# Altium footprint library Passives.PcbLib: 53 footprints (part 2 of 4)
Each footprint in its own frame and in the unit in brackets; x right, y up, seen from the top. Pads: shape width x height; smd on the part's side, far side on the other; paste and mask are expansions set on the pad; w line width, h text height; cw(c..) or ccw(c..) is an arc to the next point about the centre after c.
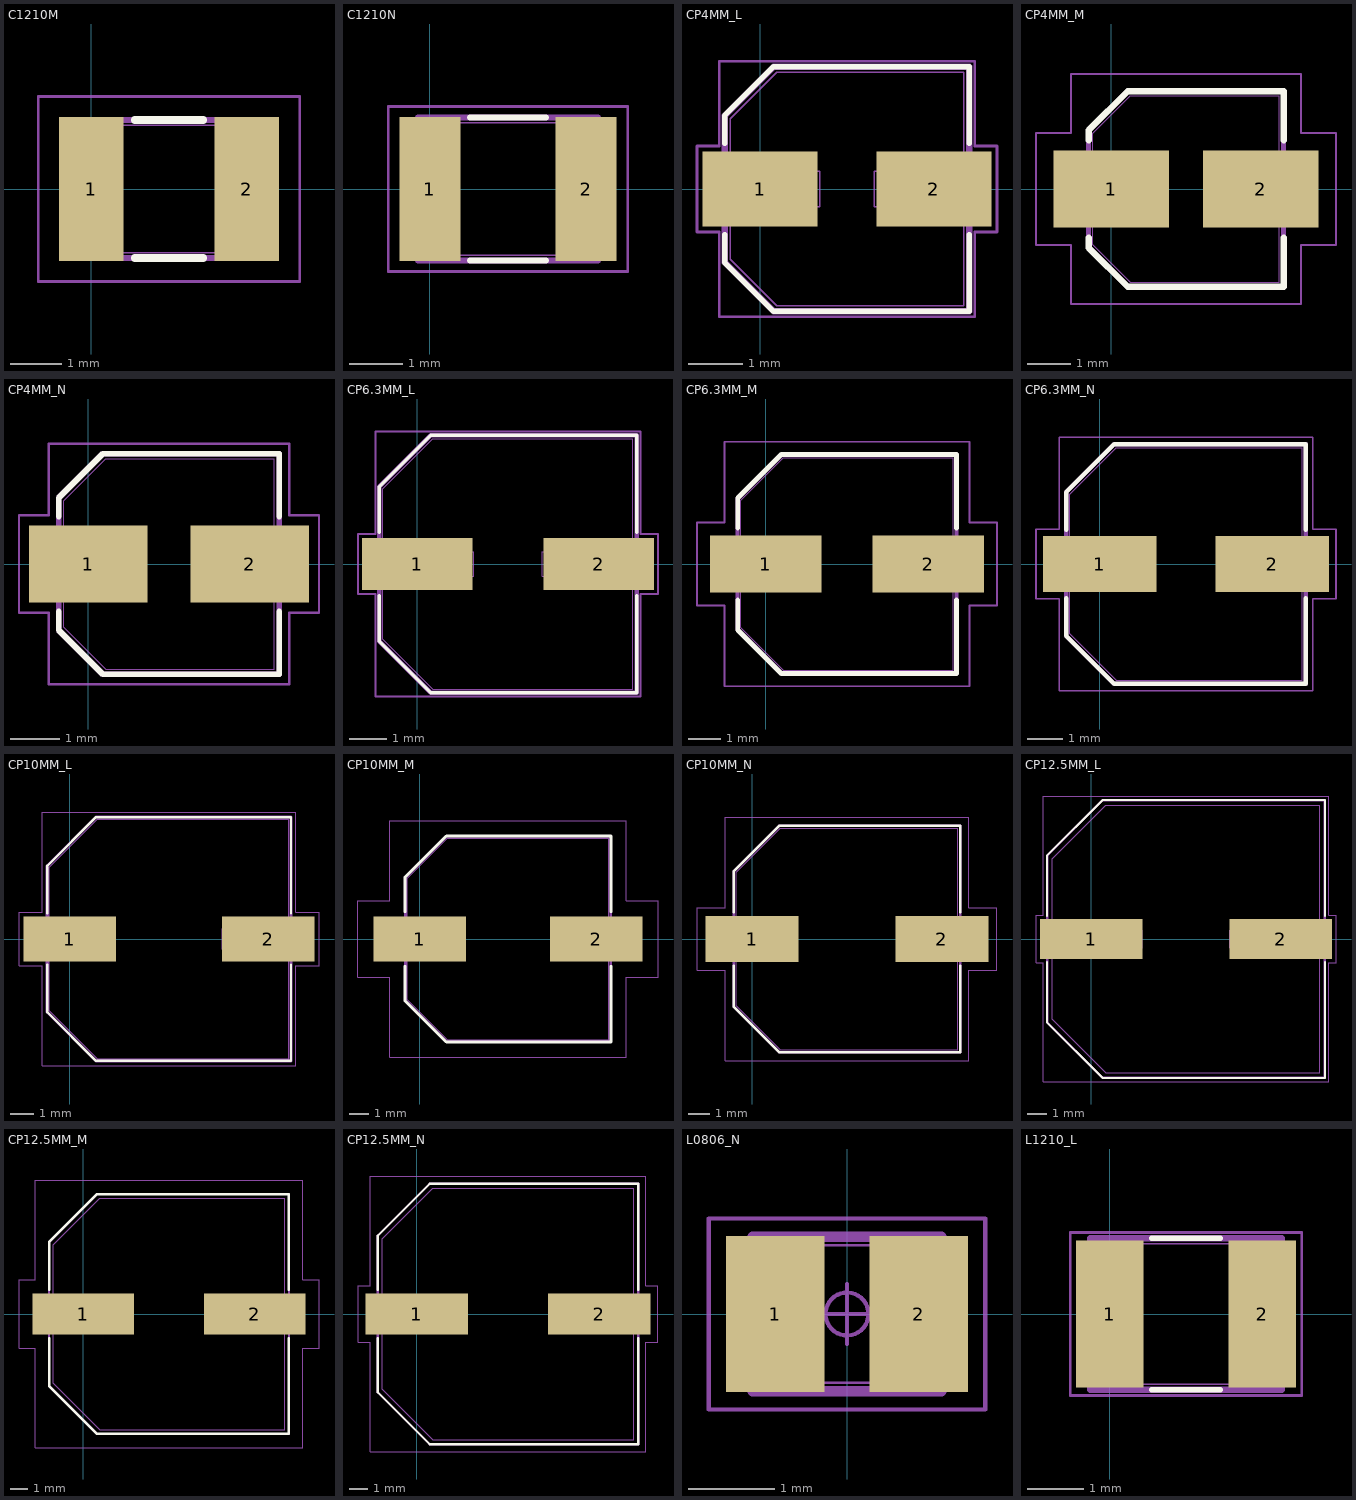
[diagram p1: the footprints below, top view; thin cyan lines are the x and y axes]

## C1210M [mm]
height 2.1
pads (2):
  rect 1.26x2.82 smd: 1(0,0) 2(3.05,0)
Top Overlay:
  lines w0.15: 0.855,-1.35 2.195,-1.35 ; 0.855,1.35 2.195,1.35
Assembly Top:
  lines w0.12: -0.175,-1.35 -0.175,1.35 3.225,1.35 3.225,-1.35 -0.175,-1.35
3D Top:
  lines w0.025: -0.075,-1.25 -0.075,1.25 ; -0.075,-1.25 3.125,-1.25 ; -0.075,-1.25 0.425,-1.25 0.425,1.25 -0.075,1.25 ; -0.075,-1.25 -0.075,1.25 ; -0.075,1.25 3.125,1.25 ; 3.125,-1.25 3.125,1.25 ; 3.125,-1.25 3.125,1.25 ; 3.125,-1.25 2.625,-1.25 2.625,1.25 3.125,1.25
Courtyard Top:
  circle w0.05: c0,0 r0.25
  lines w0.05: -0.35,0 0.35,0 ; 0,-0.35 0,0.35 ; -1.035,-1.81 -1.035,1.81 4.085,1.81 4.085,-1.81 -1.035,-1.81
3D body: height 2.1, standoff 0, extent -0.074,-1.25 3.126,1.25

## C1210N [mm]
height 2.1
pads (2):
  rect 1.16x2.72 smd: 1(0,0) 2(2.95,0)
Top Overlay:
  lines w0.12: 0.76,-1.35 2.19,-1.35 ; 0.76,1.35 2.19,1.35
Assembly Top:
  lines w0.12: -0.225,-1.35 3.175,-1.35 3.175,1.35 -0.225,1.35 -0.225,-1.35
3D Top:
  lines w0.025: -0.125,-1.25 -0.125,1.25 ; -0.125,-1.25 0.375,-1.25 0.375,1.25 -0.125,1.25 ; -0.125,-1.25 3.075,-1.25 ; -0.125,-1.25 -0.125,1.25 ; -0.125,1.25 3.075,1.25 ; 3.075,-1.25 2.575,-1.25 2.575,1.25 3.075,1.25 ; 3.075,-1.25 3.075,1.25 ; 3.075,-1.25 3.075,1.25
Courtyard Top:
  circle w0.05: c0,0 r0.25
  lines w0.05: -0.35,0 0.35,0 ; 0,-0.35 0,0.35 ; -0.785,-1.56 3.735,-1.56 3.735,1.56 -0.785,1.56 -0.785,-1.56
3D body: height 2.1, standoff 0, extent -0.125,-1.25 3.075,1.25

## CP4MM_L [mm]
height 5.5
pads (2):
  rect 2.12x1.38 smd: 1(0,0) 2(3.2,0)
Top Overlay:
  lines w0.1: -0.65,-0.84 -0.65,-1.35 0.25,-2.25 3.85,-2.25 3.85,-0.84 ; -0.65,0.84 -0.65,1.35 0.25,2.25 3.85,2.25 3.85,0.84
Assembly Top:
  lines w0.12: -0.65,-1.35 0.25,-2.25 3.85,-2.25 3.85,2.25 0.25,2.25 -0.65,1.35 -0.65,-1.35
3D Top:
  lines w0.025: -0.7,-0.325 1.1,-0.325 1.1,0.325 -0.7,0.325 -0.7,-0.325 ; -0.55,-1.29 0.31,-2.15 3.75,-2.15 3.75,2.15 0.31,2.15 -0.55,1.29 -0.55,-1.29 ; 2.1,-0.325 2.1,0.325 3.9,0.325 3.9,-0.325 2.1,-0.325
Courtyard Top:
  circle w0.05: c0,0 r0.25
  lines w0.05: -0.35,0 0.35,0 ; 0,-0.35 0,0.35 ; -1.16,-0.79 -1.16,0.79 -0.75,0.79 -0.75,2.35 3.95,2.35 3.95,0.79 4.36,0.79 4.36,-0.79 3.95,-0.79 3.95,-2.35 -0.75,-2.35 -0.75,-0.79 -1.16,-0.79
3D body: height 5.5, standoff 0, extent -0.7,-2.175 3.9,2.125

## CP4MM_M [mm]
height 5.5
pads (2):
  rect 2.67x1.78 smd: 1(0,0) 2(3.45,0)
Top Overlay:
  lines w0.15: -0.52,-1.12 -0.52,-1.36 0.38,-2.255 3.98,-2.255 3.98,-1.12 ; -0.52,1.12 -0.52,1.36 0.38,2.255 3.98,2.255 3.98,1.12
Assembly Top:
  lines w0.12: -0.525,-1.35 -0.525,1.35 0.375,2.25 3.975,2.25 3.975,-2.25 0.375,-2.25 -0.525,-1.35
3D Top:
  lines w0.025: -0.575,-0.325 -0.575,0.325 1.225,0.325 1.225,-0.325 -0.575,-0.325 ; -0.425,-1.29 -0.425,1.29 0.435,2.15 3.875,2.15 3.875,-2.15 0.435,-2.15 -0.425,-1.29 ; 2.225,-0.325 4.025,-0.325 4.025,0.325 2.225,0.325 2.225,-0.325
Courtyard Top:
  circle w0.05: c0,0 r0.25
  lines w0.05: -0.35,0 0.35,0 ; 0,-0.35 0,0.35 ; -1.735,-1.29 -0.93,-1.29 -0.93,-2.65 4.38,-2.65 4.38,-1.29 5.185,-1.29 5.185,1.29 4.38,1.29 4.38,2.65 -0.93,2.65 -0.93,1.29 -1.735,1.29 -1.735,-1.29
3D body: height 5.5, standoff 0, extent -0.573,-2.15 4.027,2.15

## CP4MM_N [mm]
height 5.5
pads (2):
  rect 2.42x1.58 smd: 1(0,0) 2(3.3,0)
Top Overlay:
  lines w0.12: -0.6,-0.97 -0.6,-1.35 0.3,-2.25 3.9,-2.25 3.9,-0.97 ; -0.6,0.97 -0.6,1.35 0.3,2.25 3.9,2.25 3.9,0.97
Assembly Top:
  lines w0.12: -0.6,-1.35 0.3,-2.25 3.9,-2.25 3.9,2.25 0.3,2.25 -0.6,1.35 -0.6,-1.35
3D Top:
  lines w0.025: -0.65,-0.325 1.15,-0.325 1.15,0.325 -0.65,0.325 -0.65,-0.325 ; -0.5,-1.29 0.36,-2.15 3.8,-2.15 3.8,2.15 0.36,2.15 -0.5,1.29 -0.5,-1.29 ; 2.15,-0.325 2.15,0.325 3.95,0.325 3.95,-0.325 2.15,-0.325
Courtyard Top:
  circle w0.05: c0,0 r0.25
  lines w0.05: -0.35,0 0.35,0 ; 0,-0.35 0,0.35 ; -1.41,-0.99 -1.41,0.99 -0.8,0.99 -0.8,2.45 4.1,2.45 4.1,0.99 4.71,0.99 4.71,-0.99 4.1,-0.99 4.1,-2.45 -0.8,-2.45 -0.8,-0.99 -1.41,-0.99
3D body: height 5.5, standoff 0, extent -0.649,-2.15 3.951,2.15

## CP6.3MM_L [mm]
height 5.5
pads (2):
  rect 2.92x1.38 smd: 1(0,0) 2(4.8,0)
Top Overlay:
  lines w0.1: -1,-0.84 -1,-2.04 0.36,-3.4 5.8,-3.4 5.8,-0.84 ; -1,0.84 -1,2.04 0.36,3.4 5.8,3.4 5.8,0.84
Assembly Top:
  lines w0.12: -1,-2.04 0.36,-3.4 5.8,-3.4 5.8,3.4 0.36,3.4 -1,2.04 -1,-2.04
3D Top:
  lines w0.025: -1.1,-0.325 1.5,-0.325 1.5,0.325 -1.1,0.325 -1.1,-0.325 ; -0.9,-1.98 0.42,-3.3 5.7,-3.3 5.7,3.3 0.42,3.3 -0.9,1.98 -0.9,-1.98 ; 3.3,-0.325 3.3,0.325 5.9,0.325 5.9,-0.325 3.3,-0.325
Courtyard Top:
  circle w0.05: c0,0 r0.25
  lines w0.05: -0.35,0 0.35,0 ; 0,-0.35 0,0.35 ; -1.56,-0.79 -1.56,0.79 -1.1,0.79 -1.1,3.5 5.9,3.5 5.9,0.79 6.36,0.79 6.36,-0.79 5.9,-0.79 5.9,-3.5 -1.1,-3.5 -1.1,-0.79 -1.56,-0.79
3D body: height 8, standoff 0, extent -1.087,-3.3 5.913,3.3

## CP6.3MM_M [mm]
height 5.5
pads (2):
  rect 3.47x1.78 smd: 1(0,0) 2(5.05,0)
Top Overlay:
  lines w0.15: -0.87,-1.12 -0.87,-2.05 0.49,-3.405 5.93,-3.405 5.93,-1.12 ; -0.87,1.12 -0.87,2.05 0.49,3.405 5.93,3.405 5.93,1.12
Assembly Top:
  lines w0.12: -0.875,-2.04 -0.875,2.04 0.485,3.4 5.925,3.4 5.925,-3.4 0.485,-3.4 -0.875,-2.04
3D Top:
  lines w0.025: -0.975,-0.325 -0.975,0.325 1.625,0.325 1.625,-0.325 -0.975,-0.325 ; -0.775,-1.98 -0.775,1.98 0.545,3.3 5.825,3.3 5.825,-3.3 0.545,-3.3 -0.775,-1.98 ; 3.425,-0.325 6.025,-0.325 6.025,0.325 3.425,0.325 3.425,-0.325
Courtyard Top:
  circle w0.05: c0,0 r0.25
  lines w0.05: -0.35,0 0.35,0 ; 0,-0.35 0,0.35 ; -2.135,-1.29 -1.28,-1.29 -1.28,-3.8 6.33,-3.8 6.33,-1.29 7.185,-1.29 7.185,1.29 6.33,1.29 6.33,3.8 -1.28,3.8 -1.28,1.29 -2.135,1.29 -2.135,-1.29
3D body: height 8, standoff 0, extent -0.985,-3.3 6.015,3.3

## CP6.3MM_N [mm]
height 5.5
pads (2):
  rect 3.22x1.58 smd: 1(0,0) 2(4.9,0)
Top Overlay:
  lines w0.12: -0.95,-0.97 -0.95,-2.04 0.41,-3.4 5.85,-3.4 5.85,-0.97 ; -0.95,0.97 -0.95,2.04 0.41,3.4 5.85,3.4 5.85,0.97
Assembly Top:
  lines w0.12: -0.95,-2.04 -0.95,2.04 0.41,3.4 5.85,3.4 5.85,-3.4 0.41,-3.4 -0.95,-2.04
3D Top:
  lines w0.025: -1.05,-0.325 -1.05,0.325 1.55,0.325 1.55,-0.325 -1.05,-0.325 ; -0.85,-1.98 -0.85,1.98 0.47,3.3 5.75,3.3 5.75,-3.3 0.47,-3.3 -0.85,-1.98 ; 3.35,-0.325 5.95,-0.325 5.95,0.325 3.35,0.325 3.35,-0.325
Courtyard Top:
  circle w0.05: c0,0 r0.25
  lines w0.05: -0.35,0 0.35,0 ; 0,-0.35 0,0.35 ; -1.81,-0.99 -1.15,-0.99 -1.15,-3.6 6.05,-3.6 6.05,-0.99 6.71,-0.99 6.71,0.99 6.05,0.99 6.05,3.6 -1.15,3.6 -1.15,0.99 -1.81,0.99 -1.81,-0.99
3D body: height 8, standoff 0, extent -1.036,-3.3 5.964,3.3

## CP10MM_L [mm]
height 10.5
pads (2):
  rect 3.97x1.92 smd: 1(0,0) 2(8.55,0)
Top Overlay:
  lines w0.1: -0.97,-1.11 -0.97,-3.15 1.13,-5.25 9.53,-5.25 9.53,-1.11 ; -0.97,1.11 -0.97,3.15 1.13,5.25 9.53,5.25 9.53,1.11
Assembly Top:
  lines w0.12: -0.975,-3.15 -0.975,3.15 1.125,5.25 9.525,5.25 9.525,-5.25 1.125,-5.25 -0.975,-3.15
3D Top:
  lines w0.025: -1.525,-0.45 -1.525,0.45 1.975,0.45 1.975,-0.45 -1.525,-0.45 ; -0.875,-3.09 -0.875,3.09 1.185,5.15 9.425,5.15 9.425,-5.15 1.185,-5.15 -0.875,-3.09 ; 6.575,-0.45 10.075,-0.45 10.075,0.45 6.575,0.45 6.575,-0.45
Courtyard Top:
  circle w0.05: c0,0 r0.25
  lines w0.05: -0.35,0 0.35,0 ; 0,-0.35 0,0.35 ; -2.185,-1.16 -1.18,-1.16 -1.18,-5.45 9.73,-5.45 9.73,-1.16 10.735,-1.16 10.735,1.16 9.73,1.16 9.73,5.45 -1.18,5.45 -1.18,1.16 -2.185,1.16 -2.185,-1.16
3D body: height 10.5, standoff 0, extent -1.55,-5.15 10.05,5.15

## CP10MM_M [mm]
height 10.5
pads (2):
  rect 4.72x2.32 smd: 1(0,0) 2(9,0)
Top Overlay:
  lines w0.15: -0.75,-1.39 -0.75,-3.16 1.35,-5.255 9.75,-5.255 9.75,-1.39 ; -0.75,1.39 -0.75,3.16 1.35,5.255 9.75,5.255 9.75,1.39
Assembly Top:
  lines w0.12: -0.75,-3.15 1.35,-5.25 9.75,-5.25 9.75,5.25 1.35,5.25 -0.75,3.15 -0.75,-3.15
3D Top:
  lines w0.025: -1.3,-0.45 2.2,-0.45 2.2,0.45 -1.3,0.45 -1.3,-0.45 ; -0.65,-3.09 1.41,-5.15 9.65,-5.15 9.65,5.15 1.41,5.15 -0.65,3.09 -0.65,-3.09 ; 6.8,-0.45 6.8,0.45 10.3,0.45 10.3,-0.45 6.8,-0.45
Courtyard Top:
  circle w0.05: c0,0 r0.25
  lines w0.05: -0.35,0 0.35,0 ; 0,-0.35 0,0.35 ; -3.16,-1.96 -3.16,1.96 -1.55,1.96 -1.55,6.05 10.55,6.05 10.55,1.96 12.16,1.96 12.16,-1.96 10.55,-1.96 10.55,-6.05 -1.55,-6.05 -1.55,-1.96 -3.16,-1.96
3D body: height 10.5, standoff 0, extent -1.296,-5.15 10.304,5.15

## CP10MM_N [mm]
height 10.5
pads (2):
  rect 4.32x2.12 smd: 1(0,0) 2(8.8,0)
Top Overlay:
  lines w0.12: -0.85,-1.24 -0.85,-3.15 1.25,-5.25 9.65,-5.25 9.65,-1.24 ; -0.85,1.24 -0.85,3.15 1.25,5.25 9.65,5.25 9.65,1.24
Assembly Top:
  lines w0.12: -0.85,-3.15 -0.85,3.15 1.25,5.25 9.65,5.25 9.65,-5.25 1.25,-5.25 -0.85,-3.15
3D Top:
  lines w0.025: -1.4,-0.45 -1.4,0.45 2.1,0.45 2.1,-0.45 -1.4,-0.45 ; -0.75,-3.09 -0.75,3.09 1.31,5.15 9.55,5.15 9.55,-5.15 1.31,-5.15 -0.75,-3.09 ; 6.7,-0.45 10.2,-0.45 10.2,0.45 6.7,0.45 6.7,-0.45
Courtyard Top:
  circle w0.05: c0,0 r0.25
  lines w0.05: -0.35,0 0.35,0 ; 0,-0.35 0,0.35 ; -2.56,-1.46 -1.25,-1.46 -1.25,-5.65 10.05,-5.65 10.05,-1.46 11.36,-1.46 11.36,1.46 10.05,1.46 10.05,5.65 -1.25,5.65 -1.25,1.46 -2.56,1.46 -2.56,-1.46
3D body: height 10.5, standoff 0, extent -1.398,-5.15 10.202,5.15

## CP12.5MM_L [mm]
height 14
pads (2):
  rect 5.17x2.01 smd: 1(0,0) 2(9.55,0)
Top Overlay:
  lines w0.1: -2.22,-1.16 -2.22,-4.21 0.58,-7.005 11.78,-7.005 11.78,-1.16 ; -2.22,1.16 -2.22,4.21 0.58,7.005 11.78,7.005 11.78,1.16
Assembly Top:
  lines w0.12: -2.225,-4.2 -2.225,4.2 0.575,7 11.775,7 11.775,-7 0.575,-7 -2.225,-4.2
3D Top:
  lines w0.025: -2.125,-0.45 -2.125,0.45 2.575,0.45 2.575,-0.45 -2.125,-0.45 ; -1.975,-4.05 -1.975,4.05 0.725,6.75 11.525,6.75 11.525,-6.75 0.725,-6.75 -1.975,-4.05 ; 6.975,-0.45 11.675,-0.45 11.675,0.45 6.975,0.45 6.975,-0.45
Courtyard Top:
  circle w0.05: c0,0 r0.25
  lines w0.05: -0.35,0 0.35,0 ; 0,-0.35 0,0.35 ; -2.785,-1.205 -2.43,-1.205 -2.43,-7.2 11.98,-7.2 11.98,-1.205 12.335,-1.205 12.335,1.205 11.98,1.205 11.98,7.2 -2.43,7.2 -2.43,1.205 -2.785,1.205 -2.785,-1.205
3D body: height 14, standoff 0, extent -2.125,-6.75 11.675,6.75

## CP12.5MM_M [mm]
height 14
pads (2):
  rect 5.92x2.41 smd: 1(0,0) 2(10,0)
Top Overlay:
  lines w0.15: -2,-1.43 -2,-4.2 0.8,-7 12,-7 12,-1.43 ; -2,1.43 -2,4.2 0.8,7 12,7 12,1.43
Assembly Top:
  lines w0.12: -2,-4.2 -2,4.2 0.8,7 12,7 12,-7 0.8,-7 -2,-4.2
3D Top:
  lines w0.025: -1.9,-0.45 -1.9,0.45 2.8,0.45 2.8,-0.45 -1.9,-0.45 ; -1.75,-4.05 -1.75,4.05 0.95,6.75 11.75,6.75 11.75,-6.75 0.95,-6.75 -1.75,-4.05 ; 7.2,-0.45 11.9,-0.45 11.9,0.45 7.2,0.45 7.2,-0.45
Courtyard Top:
  circle w0.05: c0,0 r0.25
  lines w0.05: -0.35,0 0.35,0 ; 0,-0.35 0,0.35 ; -3.76,-2.005 -2.8,-2.005 -2.8,-7.8 12.8,-7.8 12.8,-2.005 13.76,-2.005 13.76,2.005 12.8,2.005 12.8,7.8 -2.8,7.8 -2.8,2.005 -3.76,2.005 -3.76,-2.005
3D body: height 14, standoff 0, extent -1.896,-6.775 11.904,6.725

## CP12.5MM_N [mm]
height 14
pads (2):
  rect 5.52x2.21 smd: 1(0,0) 2(9.8,0)
Top Overlay:
  lines w0.12: -2.1,-1.29 -2.1,-4.21 0.7,-7.005 11.9,-7.005 11.9,-1.29 ; -2.1,1.29 -2.1,4.21 0.7,7.005 11.9,7.005 11.9,1.29
Assembly Top:
  lines w0.12: -2.1,-4.2 0.7,-7 11.9,-7 11.9,7 0.7,7 -2.1,4.2 -2.1,-4.2
3D Top:
  lines w0.025: -2,-0.45 2.7,-0.45 2.7,0.45 -2,0.45 -2,-0.45 ; -1.85,-4.05 0.85,-6.75 11.65,-6.75 11.65,6.75 0.85,6.75 -1.85,4.05 -1.85,-4.05 ; 7.1,-0.45 7.1,0.45 11.8,0.45 11.8,-0.45 7.1,-0.45
Courtyard Top:
  circle w0.05: c0,0 r0.25
  lines w0.05: -0.35,0 0.35,0 ; 0,-0.35 0,0.35 ; -3.16,-1.505 -3.16,1.505 -2.5,1.505 -2.5,7.4 12.3,7.4 12.3,1.505 12.96,1.505 12.96,-1.505 12.3,-1.505 12.3,-7.4 -2.5,-7.4 -2.5,-1.505 -3.16,-1.505
3D body: height 14, standoff 0, extent -1.998,-6.75 11.802,6.75

## L0806_N [mm]
height 1.2
pads (2):
  rect 1.15x1.82 smd: 1(-0.835,0) 2(0.835,0)
Assembly Top:
  lines w0.12: -1.1,-0.9 1.1,-0.9 1.1,0.9 -1.1,0.9 -1.1,-0.9
3D Top:
  lines w0.025: -0.5,-0.8 -1,-0.8 ; -0.5,0.8 -1,0.8 ; 0.5,-0.8 1,-0.8 ; 0.5,0.8 1,0.8 ; -1,-0.8 -1,0.8 ; -1,-0.8 1,-0.8 ; -1,-0.8 -1,0.8 ; -1,0.8 1,0.8 ; 1,-0.8 1,0.8 ; 1,-0.8 1,0.8
Courtyard Top:
  circle w0.05: c0,0 r0.25
  lines w0.05: -0.35,0 0.35,0 ; 0,-0.35 0,0.35 ; -1.61,-1.11 1.61,-1.11 1.61,1.11 -1.61,1.11 -1.61,-1.11
3D body: height 1.2, standoff 0, extent -1,-0.8 1,0.8

## L1210_L [mm]
height 2.7
pads (2):
  rect 1.2x2.62 smd: 1(0,0) 2(2.72,0)
Top Overlay:
  lines w0.1: 0.75,-1.35 1.97,-1.35 ; 0.75,1.35 1.97,1.35
Assembly Top:
  lines w0.12: -0.34,-1.35 3.06,-1.35 3.06,1.35 -0.34,1.35 -0.34,-1.35
3D Top:
  lines w0.025: -0.24,-1.25 -0.24,1.25 ; -0.24,-1.25 0.36,-1.25 0.36,1.25 -0.24,1.25 ; -0.24,-1.25 2.96,-1.25 ; -0.24,-1.25 -0.24,1.25 ; -0.24,1.25 2.96,1.25 ; 2.96,-1.25 2.36,-1.25 2.36,1.25 2.96,1.25 ; 2.96,-1.25 2.96,1.25 ; 2.96,-1.25 2.96,1.25
Courtyard Top:
  circle w0.05: c0,0 r0.25
  lines w0.05: -0.35,0 0.35,0 ; 0,-0.35 0,0.35 ; -0.7,-1.45 3.42,-1.45 3.42,1.45 -0.7,1.45 -0.7,-1.45
3D body: height 2.7, standoff 0, extent -0.24,-1.25 2.96,1.25